# EAGLE library part DS1307 (library Fortech)
RTC DS1307 GENERAL DESCRIPTION The DS1307 serial real-time clock (RTC) is a low-power, full binary-coded decimal (BCD) clock/calendar plus 56 bytes of NV SRAM. Address and data are transferred serially through an I2C, bidirectional bus. The clock/calendar provides seconds, minutes, hours, day, date, month, and year information. The end of the month date is automatically adjusted for months with fewer than 31 days, including corrections for leap year. The clock operates in either the 24-hour or 12-hour format with AM/PM indicator. The DS1307 has a built-in power-sense circuit that detects power failures and automatically switches to the backup supply. Timekeeping operation continues while the part operates from the backup supply. FEATURES Real-Time Clock (RTC) Counts Seconds, Minutes, Hours, Date of the Month, Month, Day of the week, and Year with Leap-Year Compensation Valid Up to 2100 56-Byte, Battery-Backed, General-Purpose RAM with Unlimited Writes  I2C Serial Interface Programmable Square-Wave Output Signal  Automatic Power-Fail Detect and Switch Circuitry Consumes Less than 500nA in Battery-Backup Mode with Oscillator Running Optional Industrial Temperature Range: -40°C to +85°C Available in 8-Pin Plastic DIP or SO  Underwriters Laboratories (UL) Recognized
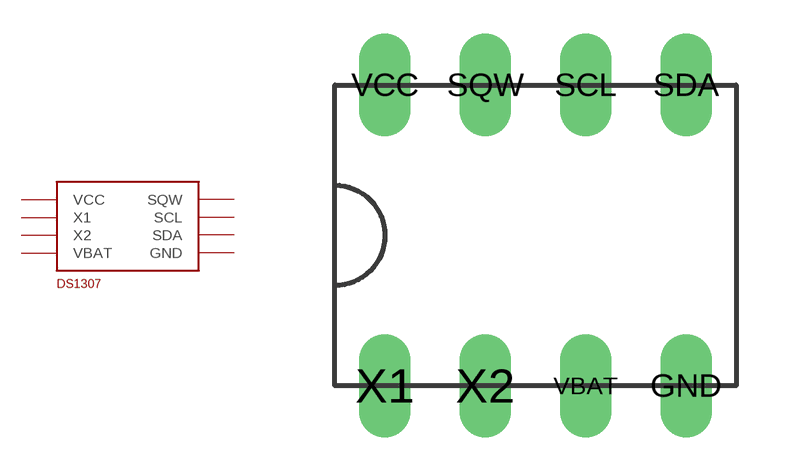
[diagram p1: symbol with the pads of DS1307; footprint DS1307]

Designator prefix -

## DS1307  [DS1307]
GND  GND
SCL  SCL
SDA  SDA
SQW  SQW
VBAT  VBAT
VCC  VCC
X1  X1
X2  X2

## Footprint DS1307 (pad centres in mm)
drill 0.8 long: GND 3.81,-3.81; SCL 1.27,3.81; SDA 3.81,3.81; SQW -1.27,3.81; VBAT 1.27,-3.81; VCC -3.81,3.81; X1 -3.81,-3.81; X2 -1.27,-3.81